# EAGLE library part PC (library ecar)
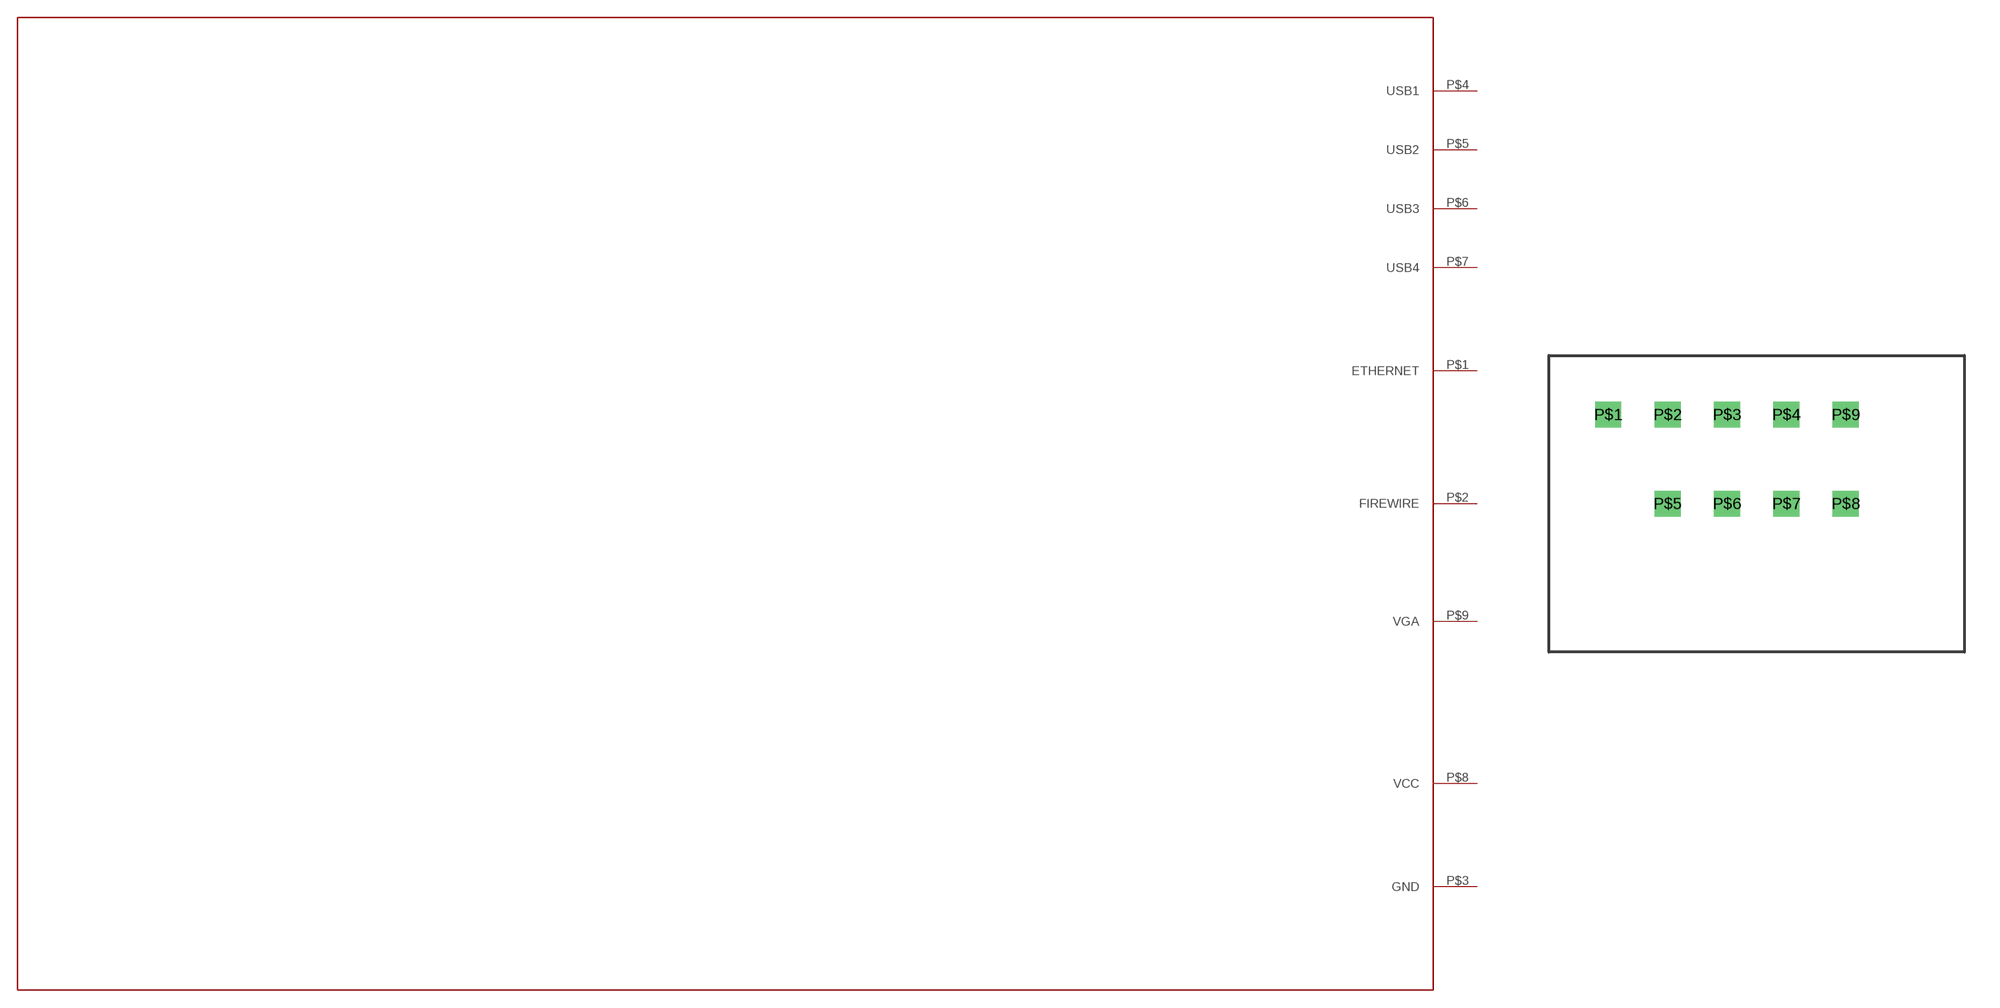
[diagram p5: symbol with the pads of PC; footprint PC]

Designator prefix -

## PC  [PC]
P$1  ETHERNET
P$2  FIREWIRE
P$3  GND
P$4  USB1
P$5  USB2
P$6  USB3
P$7  USB4
P$8  VCC
P$9  VGA

## Footprint PC (pad centres in mm)
drill 0.6 square: P$1 2.54,10.16; P$2 5.08,10.16; P$3 7.62,10.16; P$4 10.16,10.16; P$5 5.08,6.35; P$6 7.62,6.35; P$7 10.16,6.35; P$8 12.7,6.35; P$9 12.7,10.16